# EAGLE library part LT6230 (library op-amp)
OP-AMP 215MHz, Rail-to-Rail Output, 1.1nV/√Hz, 3.5mA Op Amp Family
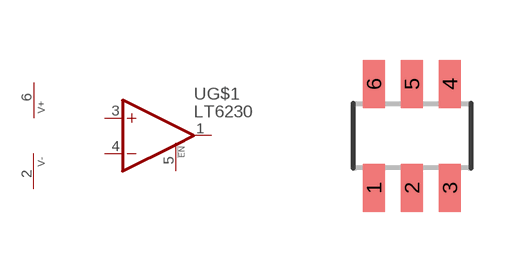
[diagram p58: symbol with the pads of SOT23-6; footprint SOT23-6]

Designator prefix U; gates P=PWR+- G$1=OPAMP_EN

## LT6230S6 (P1I: o)  [SOT23-6]
1  G$1:OUT  out
2  P:V-  pwr
3  G$1:+IN  in
4  G$1:-IN  in
5  G$1:ENABLE  pas
6  P:V+  pwr

## Footprint SOT23-6 (pad centres in mm)
SOT-23 - DBV 0.95 mm pitch
smd 0.55 x 1.2: 1 -0.95,-1.3; 2 0,-1.3; 3 0.95,-1.3; 4 0.95,1.3; 5 0,1.3; 6 -0.95,1.3